# Altium integrated library Linear Technology Power Management LDO Linear Regulators.IntLib: 2339 symbols (part 57 of 131)
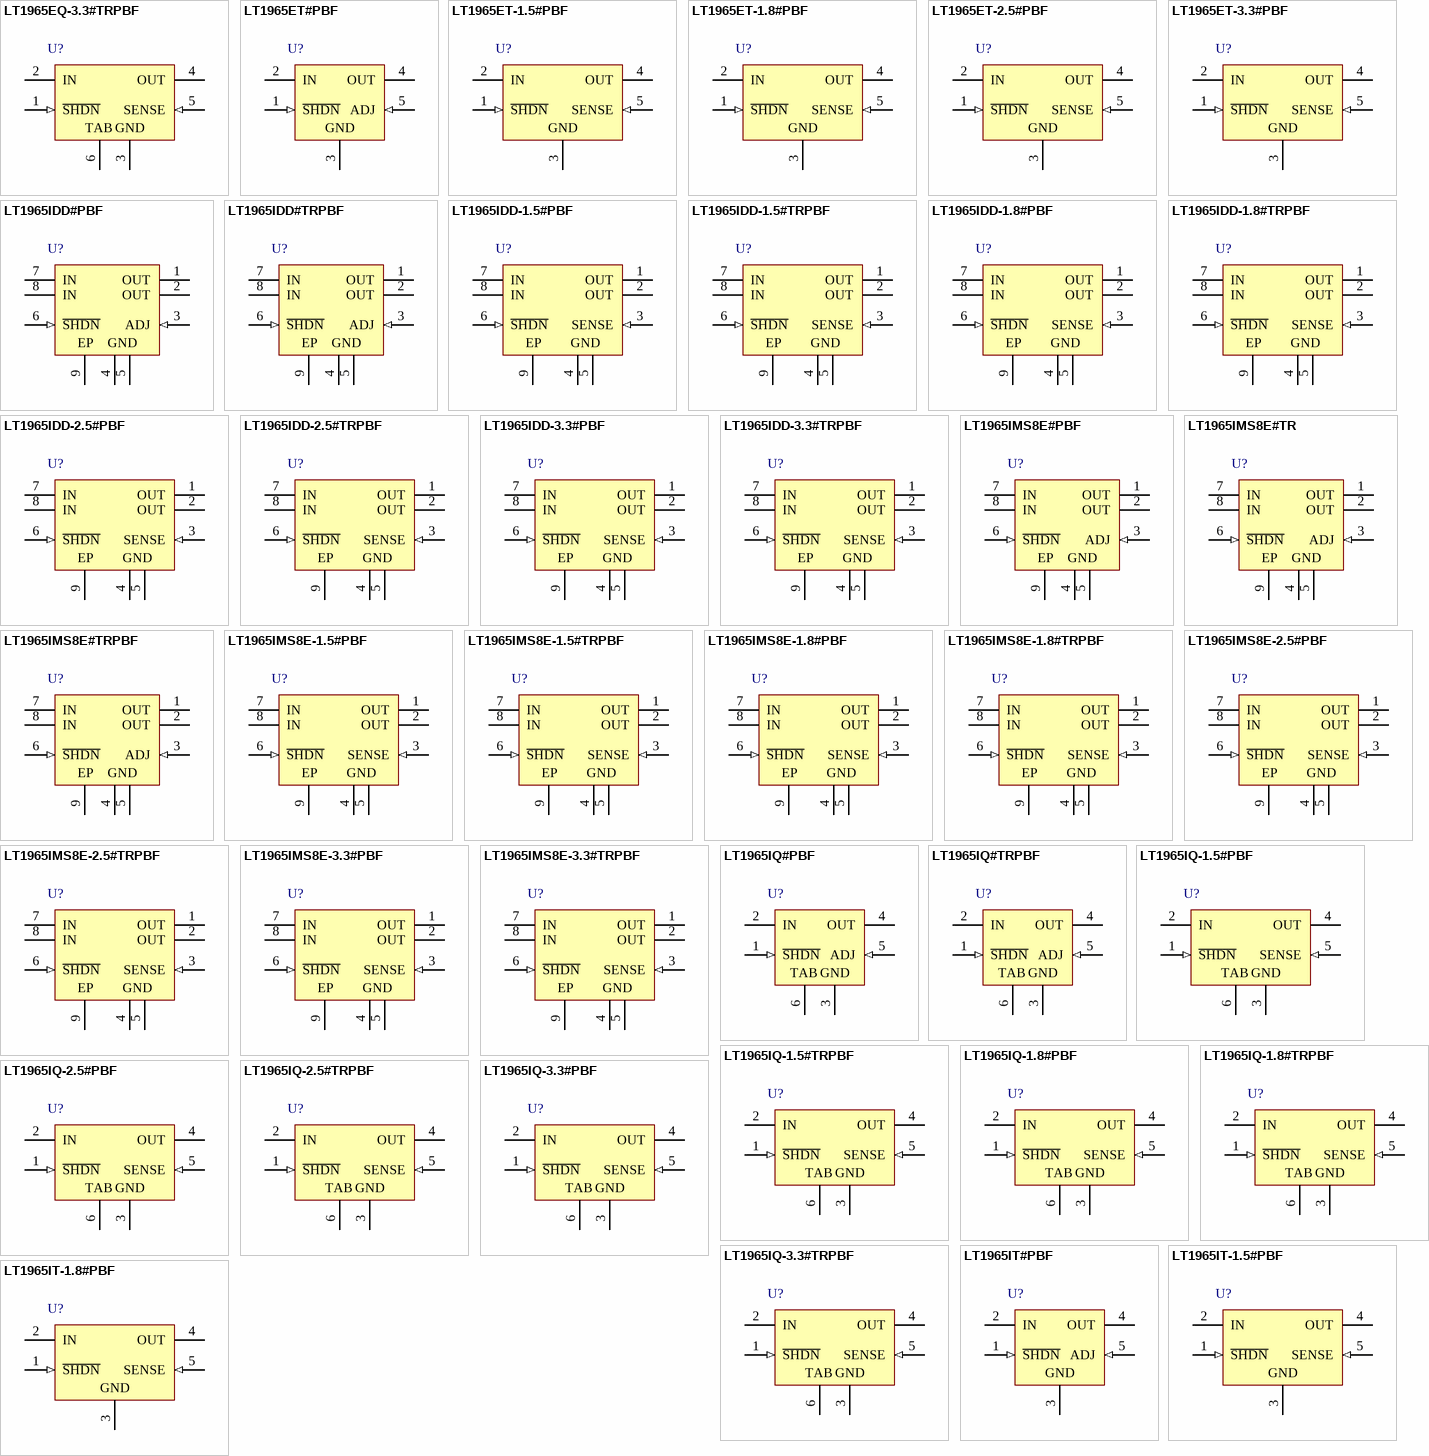
[diagram p125: symbols LT1965EQ-3.3#TRPBF to LT1965IT-1.8#PBF]

## LT1965IQ#PBF
designator U?
1.1 A, Low Noise, Low Dropout Linear Regulator, 1.8 to 20 V Vin, Adjustable Vout, 5-pin DPAK (Q-5), -40 to 125 degC, Pb-Free; Manufacturer: Linear Technology; PartNumber: LT1965IQ#PBF; Discrete Pass Element: no; Dropout Voltage(V): 0.31; Iout(mA): 1100; Isupply(mA): 0.5; Noise(uV): 40; Number of Outputs: 1; Output Voltage: Adj; PSRR(dB): 75; Vin Max(V): 20; Vin Min(V): 1.8; Vout Max(V): 19.5; Vout Min(V): 1.2; DatasheetVersion: Rev. A; PackageVersion: Rev. F, 09/2011; PackageReference: Q-5; PackageDescription: 5-Pin Plastic DD Pak, Body 10.2235 x 8.89 mm, Pitch 1.702 mm; Supplier 1: Digi-Key; Supplier Part Number 1: LT1965IQ#PBF-ND; Supplier 2: Farnell; Supplier Part Number 2: 2295238; Supplier 3: Newark; Supplier Part Number 3: 57M7603; RoHS: TRUE; Shutdown Current(uA): 1; Mounting Technology: Surface Mount; ComponentLink1Description: Manufacturer URL; ComponentLink1URL: http://www.linear.com/; ComponentLink2Description: Datasheet; ComponentLink2URL: http://cds.linear.com/docs/en/datasheet/1965fa.pdf; ComponentLink3Description: Package Specification; ComponentLink3URL: http://cds.linear.com/docs/en/packaging/Q%20DD5%2005-08-1461%20Rev%20F.pdf
footprint LT-Q-5_N (DPAK, 5-Leads, Body 10.22x8.89mm, Pitch 1.702mm, IPC Medium Density)
footprint LT-Q-5_L (DPAK, 5-Leads, Body 10.22x8.89mm, Pitch 1.702mm, IPC High Density)
footprint LT-Q-5_M (DPAK, 5-Leads, Body 10.22x8.89mm, Pitch 1.702mm, IPC Low Density)
pins: 1 ~{SHDN} (in) "Shutdown", 2 IN (power) "Input", 3 GND (power) "Ground", 4 OUT (power) "Output", 5 ADJ (in) "Adjust", 6 TAB (power) "Ground"

## LT1965IQ#TRPBF
designator U?
1.1 A, Low Noise, Low Dropout Linear Regulator, 1.8 to 20 V Vin, Adjustable Vout, 5-pin DPAK (Q-5), -40 to 125 degC, Pb-Free, Tape and Reel; Manufacturer: Linear Technology; PartNumber: LT1965IQ#TRPBF; Discrete Pass Element: no; Dropout Voltage(V): 0.31; Iout(mA): 1100; Isupply(mA): 0.5; Noise(uV): 40; Number of Outputs: 1; Output Voltage: Adj; PSRR(dB): 75; Vin Max(V): 20; Vin Min(V): 1.8; Vout Max(V): 19.5; Vout Min(V): 1.2; DatasheetVersion: Rev. A; PackageVersion: Rev. F, 09/2011; PackageReference: Q-5; PackageDescription: 5-Pin Plastic DD Pak, Body 10.2235 x 8.89 mm, Pitch 1.702 mm; Supplier 1: Digi-Key; Supplier Part Number 1: LT1965IQ#TRPBF-ND; Packing: Tape and Reel; RoHS: TRUE; Shutdown Current(uA): 1; Mounting Technology: Surface Mount; ComponentLink1Description: Manufacturer URL; ComponentLink1URL: http://www.linear.com/; ComponentLink2Description: Datasheet; ComponentLink2URL: http://cds.linear.com/docs/en/datasheet/1965fa.pdf; ComponentLink3Description: Package Specification; ComponentLink3URL: http://cds.linear.com/docs/en/packaging/Q%20DD5%2005-08-1461%20Rev%20F.pdf
footprint LT-Q-5_N (DPAK, 5-Leads, Body 10.22x8.89mm, Pitch 1.702mm, IPC Medium Density)
footprint LT-Q-5_L (DPAK, 5-Leads, Body 10.22x8.89mm, Pitch 1.702mm, IPC High Density)
footprint LT-Q-5_M (DPAK, 5-Leads, Body 10.22x8.89mm, Pitch 1.702mm, IPC Low Density)
pins: 1 ~{SHDN} (in) "Shutdown", 2 IN (power) "Input", 3 GND (power) "Ground", 4 OUT (power) "Output", 5 ADJ (in) "Adjust", 6 TAB (power) "Ground"

## LT1965IQ-1.5#PBF
designator U?
1.1 A, Low Noise, Low Dropout Linear Regulator, 1.8 to 20 V Vin, 1.5 V Vout, 5-pin DPAK (Q-5), -40 to 125 degC, Pb-Free; Manufacturer: Linear Technology; PartNumber: LT1965IQ-1.5#PBF; Discrete Pass Element: no; Dropout Voltage(V): 0.31; Iout(mA): 1100; Isupply(mA): 0.5; Noise(uV): 40; Number of Outputs: 1; Output Voltage: 1.5 V; PSRR(dB): 75; Vin Max(V): 20; Vin Min(V): 1.8; DatasheetVersion: Rev. A; PackageVersion: Rev. F, 09/2011; PackageReference: Q-5; PackageDescription: 5-Pin Plastic DD Pak, Body 10.2235 x 8.89 mm, Pitch 1.702 mm; Supplier 1: Digi-Key; Supplier Part Number 1: LT1965IQ-1.5#PBF-ND; RoHS: TRUE; Shutdown Current(uA): 1; Mounting Technology: Surface Mount; ComponentLink1Description: Manufacturer URL; ComponentLink1URL: http://www.linear.com/; ComponentLink2Description: Datasheet; ComponentLink2URL: http://cds.linear.com/docs/en/datasheet/1965fa.pdf; ComponentLink3Description: Package Specification; ComponentLink3URL: http://cds.linear.com/docs/en/packaging/Q%20DD5%2005-08-1461%20Rev%20F.pdf
footprint LT-Q-5_N (DPAK, 5-Leads, Body 10.22x8.89mm, Pitch 1.702mm, IPC Medium Density)
footprint LT-Q-5_L (DPAK, 5-Leads, Body 10.22x8.89mm, Pitch 1.702mm, IPC High Density)
footprint LT-Q-5_M (DPAK, 5-Leads, Body 10.22x8.89mm, Pitch 1.702mm, IPC Low Density)
pins: 1 ~{SHDN} (in) "Shutdown. Pulling the S\H\D\N\ pin low puts the LT1965 into a low power state and turns the output off. Drive the S\H\D\N\ pin with either logic or an open collector/drain with a pull-up resistor. The resistor supplies the (See Datasheet)", 2 IN (power) "Input. This pin supplies power to the device. The LT1965 requires a bypass capacitor at IN if located more than six inches from the main input filter capacitor. Include a bypass capacitor in battery-powered circuits as a (See Datasheet)", 3 GND (power) "Ground.", 4 OUT (power) "Output. This pin supplies power to the load. Use a minimum output capacitor of 10uF to prevent oscillations. Large load transient applications require larger output capacitors to limit peak voltage transients. See the (See Datasheet)", 5 SENSE (in) "Sense. For fixed voltage versions of the LT1965 (LT1965-1.5/LT1965-1.8/ LT1965-2.5/ LT1965-3.3), the SENSE pin is the input to the error amplifier. Optimum regulation is obtained when the SENSE pin is connected to the OUT (See Datasheet)", 6 TAB (power) "Ground."

## LT1965IQ-1.5#TRPBF
designator U?
1.1 A, Low Noise, Low Dropout Linear Regulator, 1.8 to 20 V Vin, 1.5 V Vout, 5-pin DPAK (Q-5), -40 to 125 degC, Pb-Free, Tape and Reel; Manufacturer: Linear Technology; PartNumber: LT1965IQ-1.5#TRPBF; Discrete Pass Element: no; Dropout Voltage(V): 0.31; Iout(mA): 1100; Isupply(mA): 0.5; Noise(uV): 40; Number of Outputs: 1; Output Voltage: 1.5 V; PSRR(dB): 75; Vin Max(V): 20; Vin Min(V): 1.8; DatasheetVersion: Rev. A; PackageVersion: Rev. F, 09/2011; PackageReference: Q-5; PackageDescription: 5-Pin Plastic DD Pak, Body 10.2235 x 8.89 mm, Pitch 1.702 mm; Supplier 1: Digi-Key; Supplier Part Number 1: LT1965IQ-1.5#TRPBF-ND; Packing: Tape and Reel; RoHS: TRUE; Shutdown Current(uA): 1; Mounting Technology: Surface Mount; ComponentLink1Description: Manufacturer URL; ComponentLink1URL: http://www.linear.com/; ComponentLink2Description: Datasheet; ComponentLink2URL: http://cds.linear.com/docs/en/datasheet/1965fa.pdf; ComponentLink3Description: Package Specification; ComponentLink3URL: http://cds.linear.com/docs/en/packaging/Q%20DD5%2005-08-1461%20Rev%20F.pdf
footprint LT-Q-5_N (DPAK, 5-Leads, Body 10.22x8.89mm, Pitch 1.702mm, IPC Medium Density)
footprint LT-Q-5_L (DPAK, 5-Leads, Body 10.22x8.89mm, Pitch 1.702mm, IPC High Density)
footprint LT-Q-5_M (DPAK, 5-Leads, Body 10.22x8.89mm, Pitch 1.702mm, IPC Low Density)
pins: 1 ~{SHDN} (in) "Shutdown. Pulling the S\H\D\N\ pin low puts the LT1965 into a low power state and turns the output off. Drive the S\H\D\N\ pin with either logic or an open collector/drain with a pull-up resistor. The resistor supplies the (See Datasheet)", 2 IN (power) "Input. This pin supplies power to the device. The LT1965 requires a bypass capacitor at IN if located more than six inches from the main input filter capacitor. Include a bypass capacitor in battery-powered circuits as a (See Datasheet)", 3 GND (power) "Ground.", 4 OUT (power) "Output. This pin supplies power to the load. Use a minimum output capacitor of 10uF to prevent oscillations. Large load transient applications require larger output capacitors to limit peak voltage transients. See the (See Datasheet)", 5 SENSE (in) "Sense. For fixed voltage versions of the LT1965 (LT1965-1.5/LT1965-1.8/ LT1965-2.5/ LT1965-3.3), the SENSE pin is the input to the error amplifier. Optimum regulation is obtained when the SENSE pin is connected to the OUT (See Datasheet)", 6 TAB (power) "Ground."

## LT1965IQ-1.8#PBF
designator U?
1.1 A, Low Noise, Low Dropout Linear Regulator, 1.8 to 20 V Vin, 1.8 V Vout, 5-pin DPAK (Q-5), -40 to 125 degC, Pb-Free; Manufacturer: Linear Technology; PartNumber: LT1965IQ-1.8#PBF; Discrete Pass Element: no; Dropout Voltage(V): 0.31; Iout(mA): 1100; Isupply(mA): 0.5; Noise(uV): 40; Number of Outputs: 1; Output Voltage: 1.8 V; PSRR(dB): 75; Vin Max(V): 20; Vin Min(V): 1.8; DatasheetVersion: Rev. A; PackageVersion: Rev. F, 09/2011; PackageReference: Q-5; PackageDescription: 5-Pin Plastic DD Pak, Body 10.2235 x 8.89 mm, Pitch 1.702 mm; Supplier 1: Digi-Key; Supplier Part Number 1: LT1965IQ-1.8#PBF-ND; Supplier 2: Newark; Supplier Part Number 2: 15N3652; RoHS: TRUE; Shutdown Current(uA): 1; Mounting Technology: Surface Mount; ComponentLink1Description: Manufacturer URL; ComponentLink1URL: http://www.linear.com/; ComponentLink2Description: Datasheet; ComponentLink2URL: http://cds.linear.com/docs/en/datasheet/1965fa.pdf; ComponentLink3Description: Package Specification; ComponentLink3URL: http://cds.linear.com/docs/en/packaging/Q%20DD5%2005-08-1461%20Rev%20F.pdf
footprint LT-Q-5_N (DPAK, 5-Leads, Body 10.22x8.89mm, Pitch 1.702mm, IPC Medium Density)
footprint LT-Q-5_L (DPAK, 5-Leads, Body 10.22x8.89mm, Pitch 1.702mm, IPC High Density)
footprint LT-Q-5_M (DPAK, 5-Leads, Body 10.22x8.89mm, Pitch 1.702mm, IPC Low Density)
pins: 1 ~{SHDN} (in) "Shutdown. Pulling the S\H\D\N\ pin low puts the LT1965 into a low power state and turns the output off. Drive the S\H\D\N\ pin with either logic or an open collector/drain with a pull-up resistor. The resistor supplies the (See Datasheet)", 2 IN (power) "Input. This pin supplies power to the device. The LT1965 requires a bypass capacitor at IN if located more than six inches from the main input filter capacitor. Include a bypass capacitor in battery-powered circuits as a (See Datasheet)", 3 GND (power) "Ground.", 4 OUT (power) "Output. This pin supplies power to the load. Use a minimum output capacitor of 10uF to prevent oscillations. Large load transient applications require larger output capacitors to limit peak voltage transients. See the (See Datasheet)", 5 SENSE (in) "Sense. For fixed voltage versions of the LT1965 (LT1965-1.5/LT1965-1.8/ LT1965-2.5/ LT1965-3.3), the SENSE pin is the input to the error amplifier. Optimum regulation is obtained when the SENSE pin is connected to the OUT (See Datasheet)", 6 TAB (power) "Ground."

## LT1965IQ-1.8#TRPBF
designator U?
1.1 A, Low Noise, Low Dropout Linear Regulator, 1.8 to 20 V Vin, 1.8 V Vout, 5-pin DPAK (Q-5), -40 to 125 degC, Pb-Free, Tape and Reel; Manufacturer: Linear Technology; PartNumber: LT1965IQ-1.8#TRPBF; Discrete Pass Element: no; Dropout Voltage(V): 0.31; Iout(mA): 1100; Isupply(mA): 0.5; Noise(uV): 40; Number of Outputs: 1; Output Voltage: 1.8 V; PSRR(dB): 75; Vin Max(V): 20; Vin Min(V): 1.8; DatasheetVersion: Rev. A; PackageVersion: Rev. F, 09/2011; PackageReference: Q-5; PackageDescription: 5-Pin Plastic DD Pak, Body 10.2235 x 8.89 mm, Pitch 1.702 mm; Supplier 1: Digi-Key; Supplier Part Number 1: LT1965IQ-1.8#TRPBF-ND; Packing: Tape and Reel; RoHS: TRUE; Shutdown Current(uA): 1; Mounting Technology: Surface Mount; ComponentLink1Description: Manufacturer URL; ComponentLink1URL: http://www.linear.com/; ComponentLink2Description: Datasheet; ComponentLink2URL: http://cds.linear.com/docs/en/datasheet/1965fa.pdf; ComponentLink3Description: Package Specification; ComponentLink3URL: http://cds.linear.com/docs/en/packaging/Q%20DD5%2005-08-1461%20Rev%20F.pdf
footprint LT-Q-5_N (DPAK, 5-Leads, Body 10.22x8.89mm, Pitch 1.702mm, IPC Medium Density)
footprint LT-Q-5_L (DPAK, 5-Leads, Body 10.22x8.89mm, Pitch 1.702mm, IPC High Density)
footprint LT-Q-5_M (DPAK, 5-Leads, Body 10.22x8.89mm, Pitch 1.702mm, IPC Low Density)
pins: 1 ~{SHDN} (in) "Shutdown. Pulling the S\H\D\N\ pin low puts the LT1965 into a low power state and turns the output off. Drive the S\H\D\N\ pin with either logic or an open collector/drain with a pull-up resistor. The resistor supplies the (See Datasheet)", 2 IN (power) "Input. This pin supplies power to the device. The LT1965 requires a bypass capacitor at IN if located more than six inches from the main input filter capacitor. Include a bypass capacitor in battery-powered circuits as a (See Datasheet)", 3 GND (power) "Ground.", 4 OUT (power) "Output. This pin supplies power to the load. Use a minimum output capacitor of 10uF to prevent oscillations. Large load transient applications require larger output capacitors to limit peak voltage transients. See the (See Datasheet)", 5 SENSE (in) "Sense. For fixed voltage versions of the LT1965 (LT1965-1.5/LT1965-1.8/ LT1965-2.5/ LT1965-3.3), the SENSE pin is the input to the error amplifier. Optimum regulation is obtained when the SENSE pin is connected to the OUT (See Datasheet)", 6 TAB (power) "Ground."

## LT1965IQ-2.5#PBF
designator U?
1.1 A, Low Noise, Low Dropout Linear Regulator, 1.8 to 20 V Vin, 2.5 V Vout, 5-pin DPAK (Q-5), -40 to 125 degC, Pb-Free; Manufacturer: Linear Technology; PartNumber: LT1965IQ-2.5#PBF; Discrete Pass Element: no; Dropout Voltage(V): 0.31; Iout(mA): 1100; Isupply(mA): 0.5; Noise(uV): 40; Number of Outputs: 1; Output Voltage: 2.5 V; PSRR(dB): 75; Vin Max(V): 20; Vin Min(V): 1.8; DatasheetVersion: Rev. A; PackageVersion: Rev. F, 09/2011; PackageReference: Q-5; PackageDescription: 5-Pin Plastic DD Pak, Body 10.2235 x 8.89 mm, Pitch 1.702 mm; Supplier 1: Digi-Key; Supplier Part Number 1: LT1965IQ-2.5#PBF-ND; RoHS: TRUE; Shutdown Current(uA): 1; Mounting Technology: Surface Mount; ComponentLink1Description: Manufacturer URL; ComponentLink1URL: http://www.linear.com/; ComponentLink2Description: Datasheet; ComponentLink2URL: http://cds.linear.com/docs/en/datasheet/1965fa.pdf; ComponentLink3Description: Package Specification; ComponentLink3URL: http://cds.linear.com/docs/en/packaging/Q%20DD5%2005-08-1461%20Rev%20F.pdf
footprint LT-Q-5_N (DPAK, 5-Leads, Body 10.22x8.89mm, Pitch 1.702mm, IPC Medium Density)
footprint LT-Q-5_L (DPAK, 5-Leads, Body 10.22x8.89mm, Pitch 1.702mm, IPC High Density)
footprint LT-Q-5_M (DPAK, 5-Leads, Body 10.22x8.89mm, Pitch 1.702mm, IPC Low Density)
pins: 1 ~{SHDN} (in) "Shutdown. Pulling the S\H\D\N\ pin low puts the LT1965 into a low power state and turns the output off. Drive the S\H\D\N\ pin with either logic or an open collector/drain with a pull-up resistor. The resistor supplies the (See Datasheet)", 2 IN (power) "Input. This pin supplies power to the device. The LT1965 requires a bypass capacitor at IN if located more than six inches from the main input filter capacitor. Include a bypass capacitor in battery-powered circuits as a (See Datasheet)", 3 GND (power) "Ground.", 4 OUT (power) "Output. This pin supplies power to the load. Use a minimum output capacitor of 10uF to prevent oscillations. Large load transient applications require larger output capacitors to limit peak voltage transients. See the (See Datasheet)", 5 SENSE (in) "Sense. For fixed voltage versions of the LT1965 (LT1965-1.5/LT1965-1.8/ LT1965-2.5/ LT1965-3.3), the SENSE pin is the input to the error amplifier. Optimum regulation is obtained when the SENSE pin is connected to the OUT (See Datasheet)", 6 TAB (power) "Ground."

## LT1965IQ-2.5#TRPBF
designator U?
1.1 A, Low Noise, Low Dropout Linear Regulator, 1.8 to 20 V Vin, 2.5 V Vout, 5-pin DPAK (Q-5), -40 to 125 degC, Pb-Free, Tape and Reel; Manufacturer: Linear Technology; PartNumber: LT1965IQ-2.5#TRPBF; Discrete Pass Element: no; Dropout Voltage(V): 0.31; Iout(mA): 1100; Isupply(mA): 0.5; Noise(uV): 40; Number of Outputs: 1; Output Voltage: 2.5 V; PSRR(dB): 75; Vin Max(V): 20; Vin Min(V): 1.8; DatasheetVersion: Rev. A; PackageVersion: Rev. F, 09/2011; PackageReference: Q-5; PackageDescription: 5-Pin Plastic DD Pak, Body 10.2235 x 8.89 mm, Pitch 1.702 mm; Supplier 1: Digi-Key; Supplier Part Number 1: LT1965IQ-2.5#TRPBF-ND; Packing: Tape and Reel; RoHS: TRUE; Shutdown Current(uA): 1; Mounting Technology: Surface Mount; ComponentLink1Description: Manufacturer URL; ComponentLink1URL: http://www.linear.com/; ComponentLink2Description: Datasheet; ComponentLink2URL: http://cds.linear.com/docs/en/datasheet/1965fa.pdf; ComponentLink3Description: Package Specification; ComponentLink3URL: http://cds.linear.com/docs/en/packaging/Q%20DD5%2005-08-1461%20Rev%20F.pdf
footprint LT-Q-5_N (DPAK, 5-Leads, Body 10.22x8.89mm, Pitch 1.702mm, IPC Medium Density)
footprint LT-Q-5_L (DPAK, 5-Leads, Body 10.22x8.89mm, Pitch 1.702mm, IPC High Density)
footprint LT-Q-5_M (DPAK, 5-Leads, Body 10.22x8.89mm, Pitch 1.702mm, IPC Low Density)
pins: 1 ~{SHDN} (in) "Shutdown. Pulling the S\H\D\N\ pin low puts the LT1965 into a low power state and turns the output off. Drive the S\H\D\N\ pin with either logic or an open collector/drain with a pull-up resistor. The resistor supplies the (See Datasheet)", 2 IN (power) "Input. This pin supplies power to the device. The LT1965 requires a bypass capacitor at IN if located more than six inches from the main input filter capacitor. Include a bypass capacitor in battery-powered circuits as a (See Datasheet)", 3 GND (power) "Ground.", 4 OUT (power) "Output. This pin supplies power to the load. Use a minimum output capacitor of 10uF to prevent oscillations. Large load transient applications require larger output capacitors to limit peak voltage transients. See the (See Datasheet)", 5 SENSE (in) "Sense. For fixed voltage versions of the LT1965 (LT1965-1.5/LT1965-1.8/ LT1965-2.5/ LT1965-3.3), the SENSE pin is the input to the error amplifier. Optimum regulation is obtained when the SENSE pin is connected to the OUT (See Datasheet)", 6 TAB (power) "Ground."

## LT1965IQ-3.3#PBF
designator U?
1.1 A, Low Noise, Low Dropout Linear Regulator, 1.8 to 20 V Vin, 3.3 V Vout, 5-pin DPAK (Q-5), -40 to 125 degC, Pb-Free; Manufacturer: Linear Technology; PartNumber: LT1965IQ-3.3#PBF; Discrete Pass Element: no; Dropout Voltage(V): 0.31; Iout(mA): 1100; Isupply(mA): 0.5; Noise(uV): 40; Number of Outputs: 1; Output Voltage: 3.3 V; PSRR(dB): 75; Vin Max(V): 20; Vin Min(V): 1.8; DatasheetVersion: Rev. A; PackageVersion: Rev. F, 09/2011; PackageReference: Q-5; PackageDescription: 5-Pin Plastic DD Pak, Body 10.2235 x 8.89 mm, Pitch 1.702 mm; Supplier 1: Digi-Key; Supplier Part Number 1: LT1965IQ-3.3#PBF-ND; Supplier 2: Newark; Supplier Part Number 2: 15N3656; RoHS: TRUE; Shutdown Current(uA): 1; Mounting Technology: Surface Mount; ComponentLink1Description: Manufacturer URL; ComponentLink1URL: http://www.linear.com/; ComponentLink2Description: Datasheet; ComponentLink2URL: http://cds.linear.com/docs/en/datasheet/1965fa.pdf; ComponentLink3Description: Package Specification; ComponentLink3URL: http://cds.linear.com/docs/en/packaging/Q%20DD5%2005-08-1461%20Rev%20F.pdf
footprint LT-Q-5_N (DPAK, 5-Leads, Body 10.22x8.89mm, Pitch 1.702mm, IPC Medium Density)
footprint LT-Q-5_L (DPAK, 5-Leads, Body 10.22x8.89mm, Pitch 1.702mm, IPC High Density)
footprint LT-Q-5_M (DPAK, 5-Leads, Body 10.22x8.89mm, Pitch 1.702mm, IPC Low Density)
pins: 1 ~{SHDN} (in) "Shutdown. Pulling the S\H\D\N\ pin low puts the LT1965 into a low power state and turns the output off. Drive the S\H\D\N\ pin with either logic or an open collector/drain with a pull-up resistor. The resistor supplies the (See Datasheet)", 2 IN (power) "Input. This pin supplies power to the device. The LT1965 requires a bypass capacitor at IN if located more than six inches from the main input filter capacitor. Include a bypass capacitor in battery-powered circuits as a (See Datasheet)", 3 GND (power) "Ground.", 4 OUT (power) "Output. This pin supplies power to the load. Use a minimum output capacitor of 10uF to prevent oscillations. Large load transient applications require larger output capacitors to limit peak voltage transients. See the (See Datasheet)", 5 SENSE (in) "Sense. For fixed voltage versions of the LT1965 (LT1965-1.5/LT1965-1.8/ LT1965-2.5/ LT1965-3.3), the SENSE pin is the input to the error amplifier. Optimum regulation is obtained when the SENSE pin is connected to the OUT (See Datasheet)", 6 TAB (power) "Ground."

## LT1965IQ-3.3#TRPBF
designator U?
1.1 A, Low Noise, Low Dropout Linear Regulator, 1.8 to 20 V Vin, 3.3 V Vout, 5-pin DPAK (Q-5), -40 to 125 degC, Pb-Free, Tape and Reel; Manufacturer: Linear Technology; PartNumber: LT1965IQ-3.3#TRPBF; Discrete Pass Element: no; Dropout Voltage(V): 0.31; Iout(mA): 1100; Isupply(mA): 0.5; Noise(uV): 40; Number of Outputs: 1; Output Voltage: 3.3 V; PSRR(dB): 75; Vin Max(V): 20; Vin Min(V): 1.8; DatasheetVersion: Rev. A; PackageVersion: Rev. F, 09/2011; PackageReference: Q-5; PackageDescription: 5-Pin Plastic DD Pak, Body 10.2235 x 8.89 mm, Pitch 1.702 mm; Supplier 1: Digi-Key; Supplier Part Number 1: LT1965IQ-3.3#TRPBF-ND; Packing: Tape and Reel; RoHS: TRUE; Shutdown Current(uA): 1; Mounting Technology: Surface Mount; ComponentLink1Description: Manufacturer URL; ComponentLink1URL: http://www.linear.com/; ComponentLink2Description: Datasheet; ComponentLink2URL: http://cds.linear.com/docs/en/datasheet/1965fa.pdf; ComponentLink3Description: Package Specification; ComponentLink3URL: http://cds.linear.com/docs/en/packaging/Q%20DD5%2005-08-1461%20Rev%20F.pdf
footprint LT-Q-5_N (DPAK, 5-Leads, Body 10.22x8.89mm, Pitch 1.702mm, IPC Medium Density)
footprint LT-Q-5_L (DPAK, 5-Leads, Body 10.22x8.89mm, Pitch 1.702mm, IPC High Density)
footprint LT-Q-5_M (DPAK, 5-Leads, Body 10.22x8.89mm, Pitch 1.702mm, IPC Low Density)
pins: 1 ~{SHDN} (in) "Shutdown. Pulling the S\H\D\N\ pin low puts the LT1965 into a low power state and turns the output off. Drive the S\H\D\N\ pin with either logic or an open collector/drain with a pull-up resistor. The resistor supplies the (See Datasheet)", 2 IN (power) "Input. This pin supplies power to the device. The LT1965 requires a bypass capacitor at IN if located more than six inches from the main input filter capacitor. Include a bypass capacitor in battery-powered circuits as a (See Datasheet)", 3 GND (power) "Ground.", 4 OUT (power) "Output. This pin supplies power to the load. Use a minimum output capacitor of 10uF to prevent oscillations. Large load transient applications require larger output capacitors to limit peak voltage transients. See the (See Datasheet)", 5 SENSE (in) "Sense. For fixed voltage versions of the LT1965 (LT1965-1.5/LT1965-1.8/ LT1965-2.5/ LT1965-3.3), the SENSE pin is the input to the error amplifier. Optimum regulation is obtained when the SENSE pin is connected to the OUT (See Datasheet)", 6 TAB (power) "Ground."

## LT1965IT#PBF
designator U?
1.1 A, Low Noise, Low Dropout Linear Regulator, 1.8 to 20 V Vin, Adjustable Vout, 5-pin FM (T-5), -40 to 125 degC, Pb-Free; Manufacturer: Linear Technology; PartNumber: LT1965IT#PBF; Discrete Pass Element: no; Dropout Voltage(V): 0.31; Iout(mA): 1100; Isupply(mA): 0.5; Noise(uV): 40; Number of Outputs: 1; Output Voltage: Adj; PSRR(dB): 75; Vin Max(V): 20; Vin Min(V): 1.8; Vout Max(V): 19.5; Vout Min(V): 1.2; DatasheetVersion: Rev. A; PackageVersion: Aug-10; PackageReference: T-5; PackageDescription: 5-Pin Plastic TO-220 (Standard), Body 10.224 x 8.89 mm, Pitch 1.7 mm; Supplier 1: Digi-Key; Supplier Part Number 1: LT1965IT#PBF-ND; RoHS: TRUE; Shutdown Current(uA): 1; Mounting Technology: Through Hole; ComponentLink1Description: Manufacturer URL; ComponentLink1URL: http://www.linear.com/; ComponentLink2Description: Datasheet; ComponentLink2URL: http://cds.linear.com/docs/en/datasheet/1965fa.pdf; ComponentLink3Description: Package Specification; ComponentLink3URL: http://cds.linear.com/docs/en/packaging/TO-220_5_05-08-1421.pdf
footprint LT-T-5-S (FM, 5-Leads, Body 10.2235x4.3815mm, Pitch 1.7mm)
pins: 1 ~{SHDN} (in), 2 IN (power), 3 GND (power) "Ground.", 4 OUT (power), 5 ADJ (in)

## LT1965IT-1.5#PBF
designator U?
1.1 A, Low Noise, Low Dropout Linear Regulator, 1.8 to 20 V Vin, 1.5 V Vout, 5-pin FM (T-5), -40 to 125 degC, Pb-Free; Manufacturer: Linear Technology; PartNumber: LT1965IT-1.5#PBF; Discrete Pass Element: no; Dropout Voltage(V): 0.31; Iout(mA): 1100; Isupply(mA): 0.5; Noise(uV): 40; Number of Outputs: 1; Output Voltage: 1.5 V; PSRR(dB): 75; Vin Max(V): 20; Vin Min(V): 1.8; DatasheetVersion: Rev. A; PackageVersion: Aug-10; PackageReference: T-5; PackageDescription: 5-Pin Plastic TO-220 (Standard), Body 10.224 x 8.89 mm, Pitch 1.7 mm; Supplier 1: Digi-Key; Supplier Part Number 1: LT1965IT-1.5#PBF-ND; RoHS: TRUE; Shutdown Current(uA): 1; Mounting Technology: Through Hole; ComponentLink1Description: Manufacturer URL; ComponentLink1URL: http://www.linear.com/; ComponentLink2Description: Datasheet; ComponentLink2URL: http://cds.linear.com/docs/en/datasheet/1965fa.pdf; ComponentLink3Description: Package Specification; ComponentLink3URL: http://cds.linear.com/docs/en/packaging/TO-220_5_05-08-1421.pdf
footprint LT-T-5-S (FM, 5-Leads, Body 10.2235x4.3815mm, Pitch 1.7mm)
pins: 1 ~{SHDN} (in), 2 IN (power), 3 GND (power) "Ground.", 4 OUT (power), 5 SENSE (in)

## LT1965IT-1.8#PBF
designator U?
1.1 A, Low Noise, Low Dropout Linear Regulator, 1.8 to 20 V Vin, 1.8 V Vout, 5-pin FM (T-5), -40 to 125 degC, Pb-Free; Manufacturer: Linear Technology; PartNumber: LT1965IT-1.8#PBF; Discrete Pass Element: no; Dropout Voltage(V): 0.31; Iout(mA): 1100; Isupply(mA): 0.5; Noise(uV): 40; Number of Outputs: 1; Output Voltage: 1.8 V; PSRR(dB): 75; Vin Max(V): 20; Vin Min(V): 1.8; DatasheetVersion: Rev. A; PackageVersion: Aug-10; PackageReference: T-5; PackageDescription: 5-Pin Plastic TO-220 (Standard), Body 10.224 x 8.89 mm, Pitch 1.7 mm; Supplier 1: Digi-Key; Supplier Part Number 1: LT1965IT-1.8#PBF-ND; Supplier 2: Newark; Supplier Part Number 2: 24R6688; RoHS: TRUE; Shutdown Current(uA): 1; Mounting Technology: Through Hole; ComponentLink1Description: Manufacturer URL; ComponentLink1URL: http://www.linear.com/; ComponentLink2Description: Datasheet; ComponentLink2URL: http://cds.linear.com/docs/en/datasheet/1965fa.pdf; ComponentLink3Description: Package Specification; ComponentLink3URL: http://cds.linear.com/docs/en/packaging/TO-220_5_05-08-1421.pdf
footprint LT-T-5-S (FM, 5-Leads, Body 10.2235x4.3815mm, Pitch 1.7mm)
pins: 1 ~{SHDN} (in), 2 IN (power), 3 GND (power) "Ground.", 4 OUT (power), 5 SENSE (in)

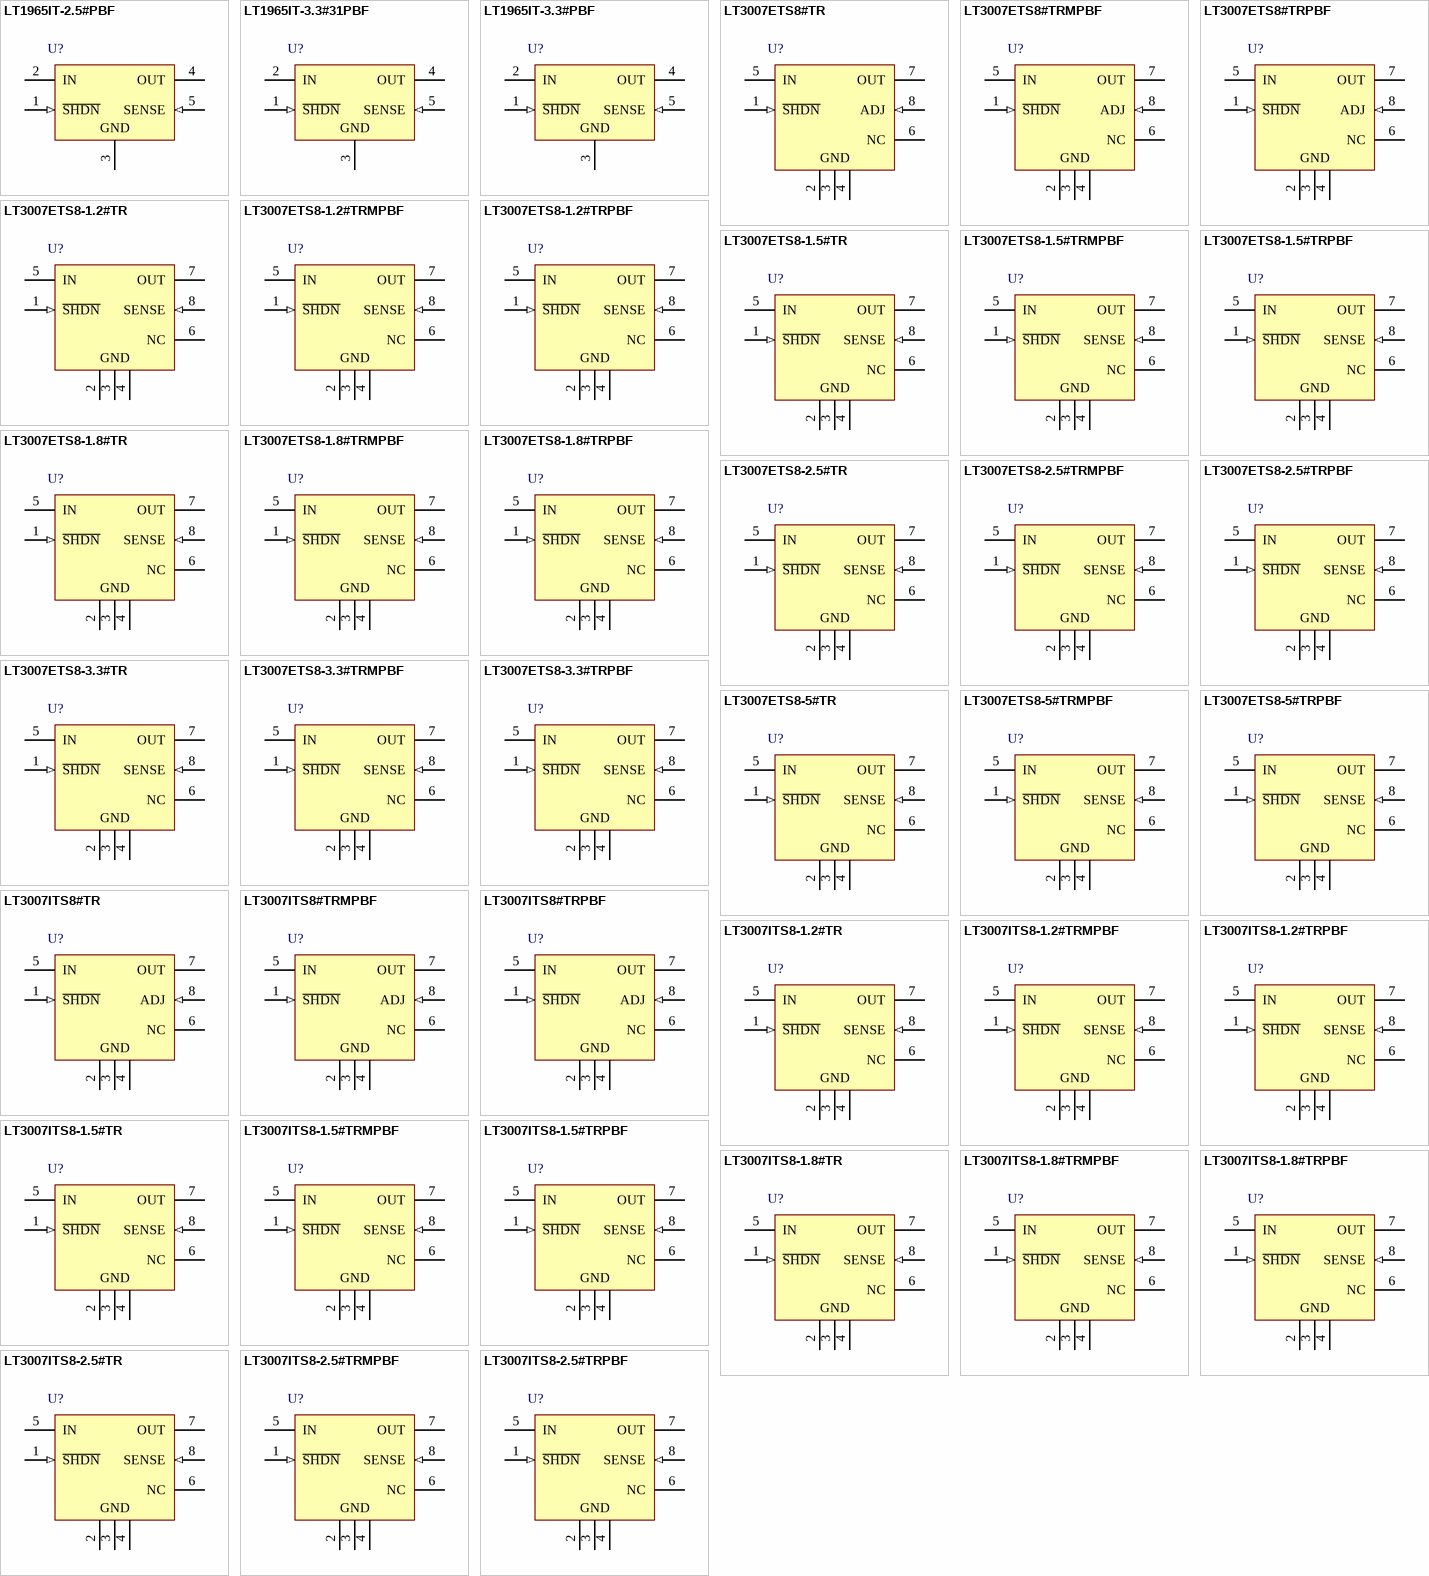
[diagram p37: symbols LT1965IT-2.5#PBF to LT3007ITS8-2.5#TRPBF]

## LT1965IT-2.5#PBF
designator U?
1.1 A, Low Noise, Low Dropout Linear Regulator, 1.8 to 20 V Vin, 2.5 V Vout, 5-pin FM (T-5), -40 to 125 degC, Pb-Free; Manufacturer: Linear Technology; PartNumber: LT1965IT-2.5#PBF; Discrete Pass Element: no; Dropout Voltage(V): 0.31; Iout(mA): 1100; Isupply(mA): 0.5; Noise(uV): 40; Number of Outputs: 1; Output Voltage: 2.5 V; PSRR(dB): 75; Vin Max(V): 20; Vin Min(V): 1.8; DatasheetVersion: Rev. A; PackageVersion: Aug-10; PackageReference: T-5; PackageDescription: 5-Pin Plastic TO-220 (Standard), Body 10.224 x 8.89 mm, Pitch 1.7 mm; Supplier 1: Digi-Key; Supplier Part Number 1: LT1965IT-2.5#PBF-ND; RoHS: TRUE; Shutdown Current(uA): 1; Mounting Technology: Through Hole; ComponentLink1Description: Manufacturer URL; ComponentLink1URL: http://www.linear.com/; ComponentLink2Description: Datasheet; ComponentLink2URL: http://cds.linear.com/docs/en/datasheet/1965fa.pdf; ComponentLink3Description: Package Specification; ComponentLink3URL: http://cds.linear.com/docs/en/packaging/TO-220_5_05-08-1421.pdf
footprint LT-T-5-S (FM, 5-Leads, Body 10.2235x4.3815mm, Pitch 1.7mm)
pins: 1 ~{SHDN} (in), 2 IN (power), 3 GND (power) "Ground.", 4 OUT (power), 5 SENSE (in)

## LT1965IT-3.3#31PBF
designator U?
1.1 A, Low Noise, Low Dropout Linear Regulator, 1.8 to 20 V Vin, 3.3 V Vout, 5-pin FM (T-5), -40 to 125 degC, Pb-Free; Manufacturer: Linear Technology; PartNumber: LT1965IT-3.3#31PBF; Discrete Pass Element: no; Dropout Voltage(V): 0.31; Iout(mA): 1100; Isupply(mA): 0.5; Noise(uV): 40; Number of Outputs: 1; Output Voltage: 3.3 V; PSRR(dB): 75; Vin Max(V): 20; Vin Min(V): 1.8; DatasheetVersion: Rev. A; PackageVersion: Aug-10; PackageReference: T-5; PackageDescription: 5-Pin Plastic TO-220 (Standard), Body 10.224 x 8.89 mm, Pitch 1.7 mm; Supplier 1: Digi-Key; Supplier Part Number 1: LT1965IT-3.3#31PBF-ND; Supplier 2: Newark; Supplier Part Number 2: 78T3774; RoHS: TRUE; Shutdown Current(uA): 1; Mounting Technology: Through Hole; ComponentLink1Description: Manufacturer URL; ComponentLink1URL: http://www.linear.com/; ComponentLink2Description: Datasheet; ComponentLink2URL: http://cds.linear.com/docs/en/datasheet/1965fa.pdf; ComponentLink3Description: Package Specification; ComponentLink3URL: http://cds.linear.com/docs/en/packaging/TO-220_5_05-08-1421.pdf
footprint LT-T-5-S (FM, 5-Leads, Body 10.2235x4.3815mm, Pitch 1.7mm)
pins: 1 ~{SHDN} (in), 2 IN (power), 3 GND (power) "Ground.", 4 OUT (power), 5 SENSE (in)

## LT1965IT-3.3#PBF
designator U?
1.1 A, Low Noise, Low Dropout Linear Regulator, 1.8 to 20 V Vin, 3.3 V Vout, 5-pin FM (T-5), -40 to 125 degC, Pb-Free; Manufacturer: Linear Technology; PartNumber: LT1965IT-3.3#PBF; Discrete Pass Element: no; Dropout Voltage(V): 0.31; Iout(mA): 1100; Isupply(mA): 0.5; Noise(uV): 40; Number of Outputs: 1; Output Voltage: 3.3 V; PSRR(dB): 75; Vin Max(V): 20; Vin Min(V): 1.8; DatasheetVersion: Rev. A; PackageVersion: Aug-10; PackageReference: T-5; PackageDescription: 5-Pin Plastic TO-220 (Standard), Body 10.224 x 8.89 mm, Pitch 1.7 mm; Supplier 1: Digi-Key; Supplier Part Number 1: LT1965IT-3.3#PBF-ND; RoHS: TRUE; Shutdown Current(uA): 1; Mounting Technology: Through Hole; ComponentLink1Description: Manufacturer URL; ComponentLink1URL: http://www.linear.com/; ComponentLink2Description: Datasheet; ComponentLink2URL: http://cds.linear.com/docs/en/datasheet/1965fa.pdf; ComponentLink3Description: Package Specification; ComponentLink3URL: http://cds.linear.com/docs/en/packaging/TO-220_5_05-08-1421.pdf
footprint LT-T-5-S (FM, 5-Leads, Body 10.2235x4.3815mm, Pitch 1.7mm)
pins: 1 ~{SHDN} (in), 2 IN (power), 3 GND (power) "Ground.", 4 OUT (power), 5 SENSE (in)

## LT3007ETS8#TR
designator U?
3 uA IQ, 20 mA, Low Dropout Fault Tolerant Linear Regulator, 2 to 45 V Vin, Adjustable Vout, 8-pin SOT23 (TS8-8), -40 to 125 degC, Tape and Reel; Manufacturer: Linear Technology; PartNumber: LT3007ETS8#TR; Discrete Pass Element: no; Dropout Voltage(V): 0.3; Iout(mA): 20; Isupply(mA): 0.003; Noise(uV): 92; Number of Outputs: 1; Output Voltage: Adj; PSRR(dB): 70; Vin Max(V): 45; Vin Min(V): 2; Vout Max(V): 44.5; Vout Min(V): 0.6; PackageVersion: Rev. A, 08/2010; PackageReference: TS8-8; PackageDescription: 8-Pin Plastic TSOT-23, Body 2.9 x 1.63 mm, Pitch 0.65 mm; Packing: Tape and Reel; RoHS: FALSE; Shutdown Current(uA): 1; Mounting Technology: Surface Mount; Code_JEDEC: MO-193; ComponentLink1Description: Manufacturer URL; ComponentLink1URL: http://www.linear.com/; ComponentLink2Description: Datasheet; ComponentLink2URL: http://cds.linear.com/docs/en/datasheet/3007f.pdf; ComponentLink3Description: Package Specification; ComponentLink3URL: http://cds.linear.com/docs/en/packaging/SOT_8_05-08-1637.pdf
footprint LT-TS8-8-TSOT-23_V (SOT23, 8-Leads, Body 2.90x1.63mm, Pitch 0.65mm, Recommended)
pins: 1 ~{SHDN} (in) "Shutdown. Pulling the S\H\D\N\ pin low puts the LT3007 into a low power state and turns the output off. If unused, tie the S\H\D\N\ pin to VIN. The LT3007 does not function if the S\H\D\N\ pin is not connected. The S\H\D\N\ (See Datasheet)", 2 GND (power) "Ground. Connect the bottom of the resistor divider that sets output voltage directly to GND for the best regulation.", 3 GND (power) "Ground. Connect the bottom of the resistor divider that sets output voltage directly to GND for the best regulation.", 4 GND (power) "Ground. Connect the bottom of the resistor divider that sets output voltage directly to GND for the best regulation.", 5 IN (power) "Input. The IN pin supplies power to the device. The LT3007 requires a bypass capacitor at IN if the device is more than six inches away from the main input filter capacitor. In general, the output impedance of a battery (See Datasheet)", 6 NC "No Connect. Pin 6 is an NC pin in the TSOT-23  package. This pin is not tied to any internal circuitry. LTC  recommends that the NC pin be floated for fault tolerant  operation.", 7 OUT (power) "Output. This pin supplies power to the load.  Use a minimum output capacitor of 2.2uF to prevent oscillations. Large load transient applications require larger output capacitors to limit peak voltage transients. See the  (See Datasheet)", 8 ADJ (in) "Adjust. This pin is the error amplifier’s inverting  terminal. Its 400pA typical input bias current flows out of the pin (see curve of ADJ Pin Bias Current vs Temperature  in the Typical Performance Characteristic(See Datasheet)"

## LT3007ETS8#TRMPBF
designator U?
3 uA IQ, 20 mA, Low Dropout Fault Tolerant Linear Regulator, 2 to 45 V Vin, Adjustable Vout, 8-pin SOT23 (TS8-8), -40 to 125 degC, Pb-Free, Mini Tape and Reel; Manufacturer: Linear Technology; PartNumber: LT3007ETS8#TRMPBF; Discrete Pass Element: no; Dropout Voltage(V): 0.3; Iout(mA): 20; Isupply(mA): 0.003; Noise(uV): 92; Number of Outputs: 1; Output Voltage: Adj; PSRR(dB): 70; Vin Max(V): 45; Vin Min(V): 2; Vout Max(V): 44.5; Vout Min(V): 0.6; PackageVersion: Rev. A, 08/2010; PackageReference: TS8-8; PackageDescription: 8-Pin Plastic TSOT-23, Body 2.9 x 1.63 mm, Pitch 0.65 mm; Supplier 1: Digi-Key; Supplier Part Number 1: LT3007ETS8#TRMPBF-ND; Supplier 2: Newark; Supplier Part Number 2: 71W8545; Packing: Mini Tape and Reel; RoHS: TRUE; Shutdown Current(uA): 1; Mounting Technology: Surface Mount; Code_JEDEC: MO-193; ComponentLink1Description: Manufacturer URL; ComponentLink1URL: http://www.linear.com/; ComponentLink2Description: Datasheet; ComponentLink2URL: http://cds.linear.com/docs/en/datasheet/3007f.pdf; ComponentLink3Description: Package Specification; ComponentLink3URL: http://cds.linear.com/docs/en/packaging/SOT_8_05-08-1637.pdf
footprint LT-TS8-8-TSOT-23_V (SOT23, 8-Leads, Body 2.90x1.63mm, Pitch 0.65mm, Recommended)
pins: 1 ~{SHDN} (in) "Shutdown. Pulling the S\H\D\N\ pin low puts the LT3007 into a low power state and turns the output off. If unused, tie the S\H\D\N\ pin to VIN. The LT3007 does not function if the S\H\D\N\ pin is not connected. The S\H\D\N\ (See Datasheet)", 2 GND (power) "Ground. Connect the bottom of the resistor divider that sets output voltage directly to GND for the best regulation.", 3 GND (power) "Ground. Connect the bottom of the resistor divider that sets output voltage directly to GND for the best regulation.", 4 GND (power) "Ground. Connect the bottom of the resistor divider that sets output voltage directly to GND for the best regulation.", 5 IN (power) "Input. The IN pin supplies power to the device. The LT3007 requires a bypass capacitor at IN if the device is more than six inches away from the main input filter capacitor. In general, the output impedance of a battery (See Datasheet)", 6 NC "No Connect. Pin 6 is an NC pin in the TSOT-23  package. This pin is not tied to any internal circuitry. LTC  recommends that the NC pin be floated for fault tolerant  operation.", 7 OUT (power) "Output. This pin supplies power to the load.  Use a minimum output capacitor of 2.2uF to prevent oscillations. Large load transient applications require larger output capacitors to limit peak voltage transients. See the  (See Datasheet)", 8 ADJ (in) "Adjust. This pin is the error amplifier’s inverting  terminal. Its 400pA typical input bias current flows out of the pin (see curve of ADJ Pin Bias Current vs Temperature  in the Typical Performance Characteristic(See Datasheet)"

## LT3007ETS8#TRPBF
designator U?
3 uA IQ, 20 mA, Low Dropout Fault Tolerant Linear Regulator, 2 to 45 V Vin, Adjustable Vout, 8-pin SOT23 (TS8-8), -40 to 125 degC, Pb-Free, Tape and Reel; Manufacturer: Linear Technology; PartNumber: LT3007ETS8#TRPBF; Discrete Pass Element: no; Dropout Voltage(V): 0.3; Iout(mA): 20; Isupply(mA): 0.003; Noise(uV): 92; Number of Outputs: 1; Output Voltage: Adj; PSRR(dB): 70; Vin Max(V): 45; Vin Min(V): 2; Vout Max(V): 44.5; Vout Min(V): 0.6; PackageVersion: Rev. A, 08/2010; PackageReference: TS8-8; PackageDescription: 8-Pin Plastic TSOT-23, Body 2.9 x 1.63 mm, Pitch 0.65 mm; Supplier 1: Digi-Key; Supplier Part Number 1: LT3007ETS8#TRPBF-ND; Supplier 2: Newark; Supplier Part Number 2: 71W8546; Packing: Tape and Reel; RoHS: TRUE; Shutdown Current(uA): 1; Mounting Technology: Surface Mount; Code_JEDEC: MO-193; ComponentLink1Description: Manufacturer URL; ComponentLink1URL: http://www.linear.com/; ComponentLink2Description: Datasheet; ComponentLink2URL: http://cds.linear.com/docs/en/datasheet/3007f.pdf; ComponentLink3Description: Package Specification; ComponentLink3URL: http://cds.linear.com/docs/en/packaging/SOT_8_05-08-1637.pdf
footprint LT-TS8-8-TSOT-23_V (SOT23, 8-Leads, Body 2.90x1.63mm, Pitch 0.65mm, Recommended)
pins: 1 ~{SHDN} (in) "Shutdown. Pulling the S\H\D\N\ pin low puts the LT3007 into a low power state and turns the output off. If unused, tie the S\H\D\N\ pin to VIN. The LT3007 does not function if the S\H\D\N\ pin is not connected. The S\H\D\N\ (See Datasheet)", 2 GND (power) "Ground. Connect the bottom of the resistor divider that sets output voltage directly to GND for the best regulation.", 3 GND (power) "Ground. Connect the bottom of the resistor divider that sets output voltage directly to GND for the best regulation.", 4 GND (power) "Ground. Connect the bottom of the resistor divider that sets output voltage directly to GND for the best regulation.", 5 IN (power) "Input. The IN pin supplies power to the device. The LT3007 requires a bypass capacitor at IN if the device is more than six inches away from the main input filter capacitor. In general, the output impedance of a battery (See Datasheet)", 6 NC "No Connect. Pin 6 is an NC pin in the TSOT-23  package. This pin is not tied to any internal circuitry. LTC  recommends that the NC pin be floated for fault tolerant  operation.", 7 OUT (power) "Output. This pin supplies power to the load.  Use a minimum output capacitor of 2.2uF to prevent oscillations. Large load transient applications require larger output capacitors to limit peak voltage transients. See the  (See Datasheet)", 8 ADJ (in) "Adjust. This pin is the error amplifier’s inverting  terminal. Its 400pA typical input bias current flows out of the pin (see curve of ADJ Pin Bias Current vs Temperature  in the Typical Performance Characteristic(See Datasheet)"

## LT3007ETS8-1.2#TR
designator U?
3 uA IQ, 20 mA, Low Dropout Fault Tolerant Linear Regulator, 2 to 45 V Vin, 1.2 V Vout, 8-pin SOT23 (TS8-8), -40 to 125 degC, Tape and Reel; Manufacturer: Linear Technology; PartNumber: LT3007ETS8-1.2#TR; Discrete Pass Element: no; Dropout Voltage(V): 0.3; Iout(mA): 20; Isupply(mA): 0.003; Noise(uV): 92; Number of Outputs: 1; Output Voltage: 1.2 V; PSRR(dB): 66; Vin Max(V): 45; Vin Min(V): 2; PackageVersion: Rev. A, 08/2010; PackageReference: TS8-8; PackageDescription: 8-Pin Plastic TSOT-23, Body 2.9 x 1.63 mm, Pitch 0.65 mm; Packing: Tape and Reel; RoHS: FALSE; Shutdown Current(uA): 1; Mounting Technology: Surface Mount; Code_JEDEC: MO-193; ComponentLink1Description: Manufacturer URL; ComponentLink1URL: http://www.linear.com/; ComponentLink2Description: Datasheet; ComponentLink2URL: http://cds.linear.com/docs/en/datasheet/3007f.pdf; ComponentLink3Description: Package Specification; ComponentLink3URL: http://cds.linear.com/docs/en/packaging/SOT_8_05-08-1637.pdf
footprint LT-TS8-8-TSOT-23_V (SOT23, 8-Leads, Body 2.90x1.63mm, Pitch 0.65mm, Recommended)
pins: 1 ~{SHDN} (in) "Shutdown. Pulling the S\H\D\N\ pin low puts the LT3007 into a low power state and turns the output off. If unused, tie the S\H\D\N\ pin to VIN. The LT3007 does not function if the S\H\D\N\ pin is not connected. The S\H\D\N\ (See Datasheet)", 2 GND (power) "Ground. Connect the bottom of the resistor divider that sets output voltage directly to GND for the best regulation.", 3 GND (power) "Ground. Connect the bottom of the resistor divider that sets output voltage directly to GND for the best regulation.", 4 GND (power) "Ground. Connect the bottom of the resistor divider that sets output voltage directly to GND for the best regulation.", 5 IN (power) "Input. The IN pin supplies power to the device. The LT3007 requires a bypass capacitor at IN if the device is more than six inches away from the main input filter capacitor. In general, the output impedance of a battery (See Datasheet)", 6 NC "No Connect. Pin 6 is an NC pin in the TSOT-23  package. This pin is not tied to any internal circuitry. LTC  recommends that the NC pin be floated for fault tolerant  operation.", 7 OUT (power) "Output. This pin supplies power to the load.  Use a minimum output capacitor of 2.2uF to prevent oscillations. Large load transient applications require larger output capacitors to limit peak voltage transients. See the  (See Datasheet)", 8 SENSE (in) "Sense. For fixed voltage versions of the  LT3007 (LT3007-1.2, LT3007-1.5, LT3007-1.8, LT3007-2.5,  LT3007-3.3, LT3007-5), the SENSE pin is the input to the  error amplifier. Optimum regulation is obtained at the point  where (See Datasheet)"

## LT3007ETS8-1.2#TRMPBF
designator U?
3 uA IQ, 20 mA, Low Dropout Fault Tolerant Linear Regulator, 2 to 45 V Vin, 1.2 V Vout, 8-pin SOT23 (TS8-8), -40 to 125 degC, Pb-Free, Mini Tape and Reel; Manufacturer: Linear Technology; PartNumber: LT3007ETS8-1.2#TRMPBF; Discrete Pass Element: no; Dropout Voltage(V): 0.3; Iout(mA): 20; Isupply(mA): 0.003; Noise(uV): 92; Number of Outputs: 1; Output Voltage: 1.2 V; PSRR(dB): 66; Vin Max(V): 45; Vin Min(V): 2; PackageVersion: Rev. A, 08/2010; PackageReference: TS8-8; PackageDescription: 8-Pin Plastic TSOT-23, Body 2.9 x 1.63 mm, Pitch 0.65 mm; Supplier 1: Digi-Key; Supplier Part Number 1: LT3007ETS8-1.2#TRMPBF-ND; Supplier 2: Newark; Supplier Part Number 2: 71W8533; Packing: Mini Tape and Reel; RoHS: TRUE; Shutdown Current(uA): 1; Mounting Technology: Surface Mount; Code_JEDEC: MO-193; ComponentLink1Description: Manufacturer URL; ComponentLink1URL: http://www.linear.com/; ComponentLink2Description: Datasheet; ComponentLink2URL: http://cds.linear.com/docs/en/datasheet/3007f.pdf; ComponentLink3Description: Package Specification; ComponentLink3URL: http://cds.linear.com/docs/en/packaging/SOT_8_05-08-1637.pdf
footprint LT-TS8-8-TSOT-23_V (SOT23, 8-Leads, Body 2.90x1.63mm, Pitch 0.65mm, Recommended)
pins: 1 ~{SHDN} (in) "Shutdown. Pulling the S\H\D\N\ pin low puts the LT3007 into a low power state and turns the output off. If unused, tie the S\H\D\N\ pin to VIN. The LT3007 does not function if the S\H\D\N\ pin is not connected. The S\H\D\N\ (See Datasheet)", 2 GND (power) "Ground. Connect the bottom of the resistor divider that sets output voltage directly to GND for the best regulation.", 3 GND (power) "Ground. Connect the bottom of the resistor divider that sets output voltage directly to GND for the best regulation.", 4 GND (power) "Ground. Connect the bottom of the resistor divider that sets output voltage directly to GND for the best regulation.", 5 IN (power) "Input. The IN pin supplies power to the device. The LT3007 requires a bypass capacitor at IN if the device is more than six inches away from the main input filter capacitor. In general, the output impedance of a battery (See Datasheet)", 6 NC "No Connect. Pin 6 is an NC pin in the TSOT-23  package. This pin is not tied to any internal circuitry. LTC  recommends that the NC pin be floated for fault tolerant  operation.", 7 OUT (power) "Output. This pin supplies power to the load.  Use a minimum output capacitor of 2.2uF to prevent oscillations. Large load transient applications require larger output capacitors to limit peak voltage transients. See the  (See Datasheet)", 8 SENSE (in) "Sense. For fixed voltage versions of the  LT3007 (LT3007-1.2, LT3007-1.5, LT3007-1.8, LT3007-2.5,  LT3007-3.3, LT3007-5), the SENSE pin is the input to the  error amplifier. Optimum regulation is obtained at the point  where (See Datasheet)"

## LT3007ETS8-1.2#TRPBF
designator U?
3 uA IQ, 20 mA, Low Dropout Fault Tolerant Linear Regulator, 2 to 45 V Vin, 1.2 V Vout, 8-pin SOT23 (TS8-8), -40 to 125 degC, Pb-Free, Tape and Reel; Manufacturer: Linear Technology; PartNumber: LT3007ETS8-1.2#TRPBF; Discrete Pass Element: no; Dropout Voltage(V): 0.3; Iout(mA): 20; Isupply(mA): 0.003; Noise(uV): 92; Number of Outputs: 1; Output Voltage: 1.2 V; PSRR(dB): 66; Vin Max(V): 45; Vin Min(V): 2; PackageVersion: Rev. A, 08/2010; PackageReference: TS8-8; PackageDescription: 8-Pin Plastic TSOT-23, Body 2.9 x 1.63 mm, Pitch 0.65 mm; Supplier 1: Digi-Key; Supplier Part Number 1: LT3007ETS8-1.2#TRPBF-ND; Supplier 2: Newark; Supplier Part Number 2: 71W8534; Packing: Tape and Reel; RoHS: TRUE; Shutdown Current(uA): 1; Mounting Technology: Surface Mount; Code_JEDEC: MO-193; ComponentLink1Description: Manufacturer URL; ComponentLink1URL: http://www.linear.com/; ComponentLink2Description: Datasheet; ComponentLink2URL: http://cds.linear.com/docs/en/datasheet/3007f.pdf; ComponentLink3Description: Package Specification; ComponentLink3URL: http://cds.linear.com/docs/en/packaging/SOT_8_05-08-1637.pdf
footprint LT-TS8-8-TSOT-23_V (SOT23, 8-Leads, Body 2.90x1.63mm, Pitch 0.65mm, Recommended)
pins: 1 ~{SHDN} (in) "Shutdown. Pulling the S\H\D\N\ pin low puts the LT3007 into a low power state and turns the output off. If unused, tie the S\H\D\N\ pin to VIN. The LT3007 does not function if the S\H\D\N\ pin is not connected. The S\H\D\N\ (See Datasheet)", 2 GND (power) "Ground. Connect the bottom of the resistor divider that sets output voltage directly to GND for the best regulation.", 3 GND (power) "Ground. Connect the bottom of the resistor divider that sets output voltage directly to GND for the best regulation.", 4 GND (power) "Ground. Connect the bottom of the resistor divider that sets output voltage directly to GND for the best regulation.", 5 IN (power) "Input. The IN pin supplies power to the device. The LT3007 requires a bypass capacitor at IN if the device is more than six inches away from the main input filter capacitor. In general, the output impedance of a battery (See Datasheet)", 6 NC "No Connect. Pin 6 is an NC pin in the TSOT-23  package. This pin is not tied to any internal circuitry. LTC  recommends that the NC pin be floated for fault tolerant  operation.", 7 OUT (power) "Output. This pin supplies power to the load.  Use a minimum output capacitor of 2.2uF to prevent oscillations. Large load transient applications require larger output capacitors to limit peak voltage transients. See the  (See Datasheet)", 8 SENSE (in) "Sense. For fixed voltage versions of the  LT3007 (LT3007-1.2, LT3007-1.5, LT3007-1.8, LT3007-2.5,  LT3007-3.3, LT3007-5), the SENSE pin is the input to the  error amplifier. Optimum regulation is obtained at the point  where (See Datasheet)"

## LT3007ETS8-1.5#TR
designator U?
3 uA IQ, 20 mA, Low Dropout Fault Tolerant Linear Regulator, 2 to 45 V Vin, 1.5 V Vout, 8-pin SOT23 (TS8-8), -40 to 125 degC, Tape and Reel; Manufacturer: Linear Technology; PartNumber: LT3007ETS8-1.5#TR; Discrete Pass Element: no; Dropout Voltage(V): 0.3; Iout(mA): 20; Isupply(mA): 0.003; Noise(uV): 92; Number of Outputs: 1; Output Voltage: 1.5 V; PSRR(dB): 65; Vin Max(V): 45; Vin Min(V): 2; PackageVersion: Rev. A, 08/2010; PackageReference: TS8-8; PackageDescription: 8-Pin Plastic TSOT-23, Body 2.9 x 1.63 mm, Pitch 0.65 mm; Packing: Tape and Reel; RoHS: FALSE; Shutdown Current(uA): 1; Mounting Technology: Surface Mount; Code_JEDEC: MO-193; ComponentLink1Description: Manufacturer URL; ComponentLink1URL: http://www.linear.com/; ComponentLink2Description: Datasheet; ComponentLink2URL: http://cds.linear.com/docs/en/datasheet/3007f.pdf; ComponentLink3Description: Package Specification; ComponentLink3URL: http://cds.linear.com/docs/en/packaging/SOT_8_05-08-1637.pdf
footprint LT-TS8-8-TSOT-23_V (SOT23, 8-Leads, Body 2.90x1.63mm, Pitch 0.65mm, Recommended)
pins: 1 ~{SHDN} (in) "Shutdown. Pulling the S\H\D\N\ pin low puts the LT3007 into a low power state and turns the output off. If unused, tie the S\H\D\N\ pin to VIN. The LT3007 does not function if the S\H\D\N\ pin is not connected. The S\H\D\N\ (See Datasheet)", 2 GND (power) "Ground. Connect the bottom of the resistor divider that sets output voltage directly to GND for the best regulation.", 3 GND (power) "Ground. Connect the bottom of the resistor divider that sets output voltage directly to GND for the best regulation.", 4 GND (power) "Ground. Connect the bottom of the resistor divider that sets output voltage directly to GND for the best regulation.", 5 IN (power) "Input. The IN pin supplies power to the device. The LT3007 requires a bypass capacitor at IN if the device is more than six inches away from the main input filter capacitor. In general, the output impedance of a battery (See Datasheet)", 6 NC "No Connect. Pin 6 is an NC pin in the TSOT-23  package. This pin is not tied to any internal circuitry. LTC  recommends that the NC pin be floated for fault tolerant  operation.", 7 OUT (power) "Output. This pin supplies power to the load.  Use a minimum output capacitor of 2.2uF to prevent oscillations. Large load transient applications require larger output capacitors to limit peak voltage transients. See the  (See Datasheet)", 8 SENSE (in) "Sense. For fixed voltage versions of the  LT3007 (LT3007-1.2, LT3007-1.5, LT3007-1.8, LT3007-2.5,  LT3007-3.3, LT3007-5), the SENSE pin is the input to the  error amplifier. Optimum regulation is obtained at the point  where (See Datasheet)"